# Altium schematic symbol library L_ICs.SchLib: 1 symbol
Pins are listed as number, name and electrical type; pins without a type are passive.

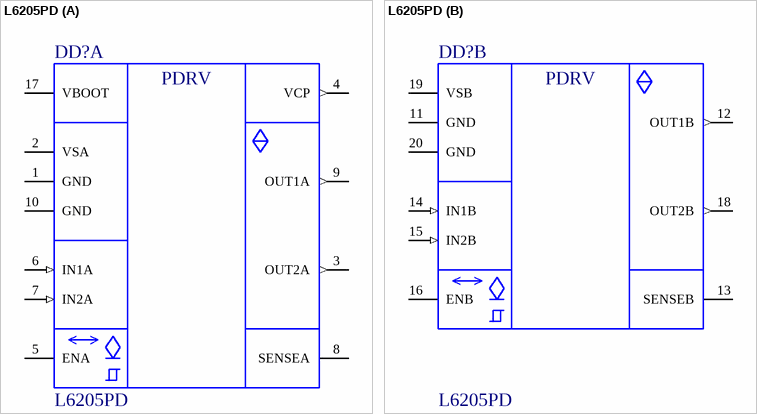
[diagram p0: symbol L6205PD]

## L6205PD
designator DD?
DMOS Dual Full Bridge Driver; ValueSch: L6205PD
part A pins: 1 GND (power), 2 VSA (power) "Положительное питание моста А", 3 OUT2A (out) "Мост А выход 2", 4 VCP (out) "Выход для зарадового насоса питания верхних плеч мостов", 5 ENA (oc) "Разрешение выхода моста A", 6 IN1A (in) "Мост А логический вход 1", 7 IN2A (in) "Мост А логический вход 2", 8 SENSEA (power) "Мост А нижнее питание", 9 OUT1A (out) "Мост А выход 1", 10 GND (power), 17 VBOOT (power) "Вход питания верхних плеч мостов"
part B pins: 11 GND (power), 12 OUT1B (out) "Мост B выход 1", 13 SENSEB (power) "Мост B нижнее питание", 14 IN1B (in) "Мост B логический вход 1", 15 IN2B (in) "Мост B логический вход 2", 16 ENB (oc) "Разрешение выхода моста B", 18 OUT2B (out) "Мост B выход 2", 19 VSB (power) "Положительное питание моста B", 20 GND (power)
part A text: PDRV
part B text: PDRV